# EAGLE library part RFM22 (library newUstar)
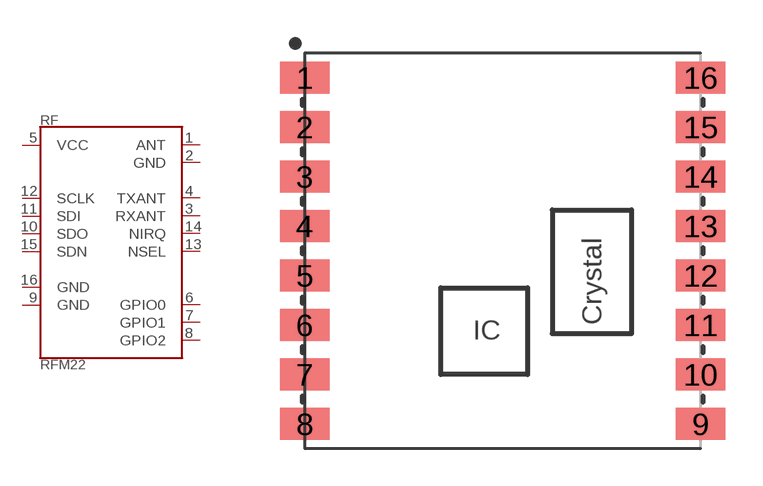
[diagram p3: symbol with the pads of RFM22; footprint RFM22]

Designator prefix RF

## RFM22  [RFM22]
1  ANT
2  GND  pwr
3  RXANT  in
4  TXANT  in
5  VCC  pwr
6  GPIO0
7  GPIO1
8  GPIO2
9  GND  pwr
10  SDO  out
11  SDI  in
12  SCLK  in
13  NSEL  in
14  NIRQ  out
15  SDN  in
16  GND  pwr

## Footprint RFM22 (pad centres in mm)
Hope RF RFM22 RF Transceiver Package for Hope RF s RFM22-xxx-S2 SMD wireless transciever, xxx is module s frequency band. SparkFun Link (915MHz) <https://www.sparkfun.com/products/12030> SparkFun Link (433 MHz) <https://www.sparkfun.com/products/12770> Datasheet <https://www.sparkfun.com/datasheets/Wireless/General/RFM22.PDF>
smd 2 x 1.3: 1 -8,7; 2 -8,5; 3 -8,3; 4 -8,1; 5 -8,-1; 6 -8,-3; 7 -8,-5; 8 -8,-7; 9 8,-7; 10 8,-5; 11 8,-3; 12 8,-1; 13 8,1; 14 8,3; 15 8,5; 16 8,7